# EAGLE library part ATMEGA328PB-MUR (library 328PBMUR)
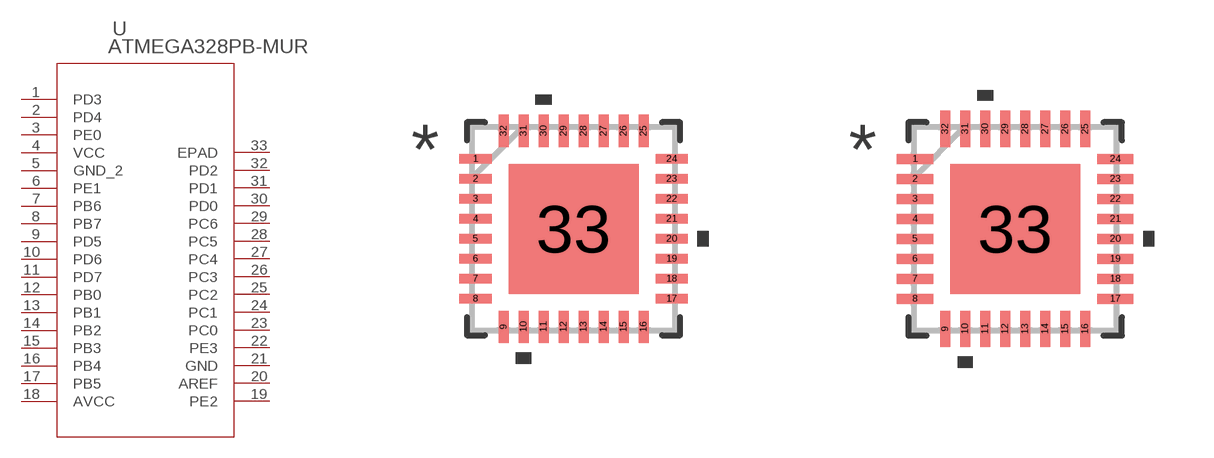
[diagram p0: symbol with the pads of 32M1-A_MCH; footprints 32M1-A_MCH, 32M1-A_MCH-M]

Designator prefix U

## ATMEGA328PB-MUR (BUILT_BY: EMA_Molly; COPYRIGHT: Copyright (C) 2018 Accelerated Designs. All rights reserved; MANUFACTURER_PART_NUMBER: ATMEGA328PB-MUR; SOURCELIBRARY: Microchip_2019-09-03; VENDOR: Microchip)  [32M1-A_MCH]
1  PD3
2  PD4
3  PE0
4  VCC  pwr
5  GND_2  pwr
6  PE1
7  PB6
8  PB7
9  PD5
10  PD6
11  PD7
12  PB0
13  PB1
14  PB2
15  PB3
16  PB4
17  PB5
18  AVCC  pwr
19  PE2
20  AREF
21  GND  pwr
22  PE3
23  PC0
24  PC1
25  PC2
26  PC3
27  PC4
28  PC5
29  PC6
30  PD0
31  PD1
32  PD2
33  EPAD  pwr

## ATMEGA328PB-MUR32M1-A_MCH-M (BUILT_BY: EMA_Molly; COPYRIGHT: Copyright (C) 2018 Accelerated Designs. All rights reserved; MANUFACTURER_PART_NUMBER: ATMEGA328PB-MUR; SOURCELIBRARY: Microchip_2019-09-03; VENDOR: Microchip)  [32M1-A_MCH-M]
Pads as for 32M1-A_MCH

## ATMEGA328PB-MUR32M1-A_MCH-L (BUILT_BY: EMA_Molly; COPYRIGHT: Copyright (C) 2018 Accelerated Designs. All rights reserved; MANUFACTURER_PART_NUMBER: ATMEGA328PB-MUR; SOURCELIBRARY: Microchip_2019-09-03; VENDOR: Microchip)  [32M1-A_MCH-L]
Pads as for 32M1-A_MCH

## Footprint 32M1-A_MCH (pad centres in mm)
smd 0.805 x 0.249: 1 -2.452,1.75; 2 -2.452,1.25; 3 -2.452,0.75; 4 -2.452,0.25; 5 -2.452,-0.25; 6 -2.452,-0.75; 7 -2.452,-1.25; 8 -2.452,-1.75; 17 2.452,-1.75; 18 2.452,-1.25; 19 2.452,-0.75; 20 2.452,-0.25; 21 2.452,0.25; 22 2.452,0.75; 23 2.452,1.25; 24 2.452,1.75
smd 0.249 x 0.805: 9 -1.75,-2.452; 10 -1.25,-2.452; 11 -0.75,-2.452; 12 -0.25,-2.452; 13 0.25,-2.452; 14 0.75,-2.452; 15 1.25,-2.452; 16 1.75,-2.452; 25 1.75,2.452; 26 1.25,2.452; 27 0.75,2.452; 28 0.25,2.452; 29 -0.25,2.452; 30 -0.75,2.452; 31 -1.25,2.452; 32 -1.75,2.452
smd 3.25 x 3.25: 33 0,0

## Footprint 32M1-A_MCH-M (pad centres in mm)
smd 0.906 x 0.249: 1 -2.503,1.75; 2 -2.503,1.25; 3 -2.503,0.75; 4 -2.503,0.25; 5 -2.503,-0.25; 6 -2.503,-0.75; 7 -2.503,-1.25; 8 -2.503,-1.75; 17 2.503,-1.75; 18 2.503,-1.25; 19 2.503,-0.75; 20 2.503,-0.25; 21 2.503,0.25; 22 2.503,0.75; 23 2.503,1.25; 24 2.503,1.75
smd 0.249 x 0.906: 9 -1.75,-2.503; 10 -1.25,-2.503; 11 -0.75,-2.503; 12 -0.25,-2.503; 13 0.25,-2.503; 14 0.75,-2.503; 15 1.25,-2.503; 16 1.75,-2.503; 25 1.75,2.503; 26 1.25,2.503; 27 0.75,2.503; 28 0.25,2.503; 29 -0.25,2.503; 30 -0.75,2.503; 31 -1.25,2.503; 32 -1.75,2.503
smd 3.25 x 3.25: 33 0,0

## Footprint 32M1-A_MCH-L (pad centres in mm)
smd 0.703 x 0.249: 1 -2.402,1.75; 2 -2.402,1.25; 3 -2.402,0.75; 4 -2.402,0.25; 5 -2.402,-0.25; 6 -2.402,-0.75; 7 -2.402,-1.25; 8 -2.402,-1.75; 17 2.402,-1.75; 18 2.402,-1.25; 19 2.402,-0.75; 20 2.402,-0.25; 21 2.402,0.25; 22 2.402,0.75; 23 2.402,1.25; 24 2.402,1.75
smd 0.249 x 0.703: 9 -1.75,-2.402; 10 -1.25,-2.402; 11 -0.75,-2.402; 12 -0.25,-2.402; 13 0.25,-2.402; 14 0.75,-2.402; 15 1.25,-2.402; 16 1.75,-2.402; 25 1.75,2.402; 26 1.25,2.402; 27 0.75,2.402; 28 0.25,2.402; 29 -0.25,2.402; 30 -0.75,2.402; 31 -1.25,2.402; 32 -1.75,2.402
smd 3.25 x 3.25: 33 0,0